# Altium schematic symbol library ultrasounic.SchLib: 36 symbols
Pins are listed as number, name and electrical type; pins without a type are passive.

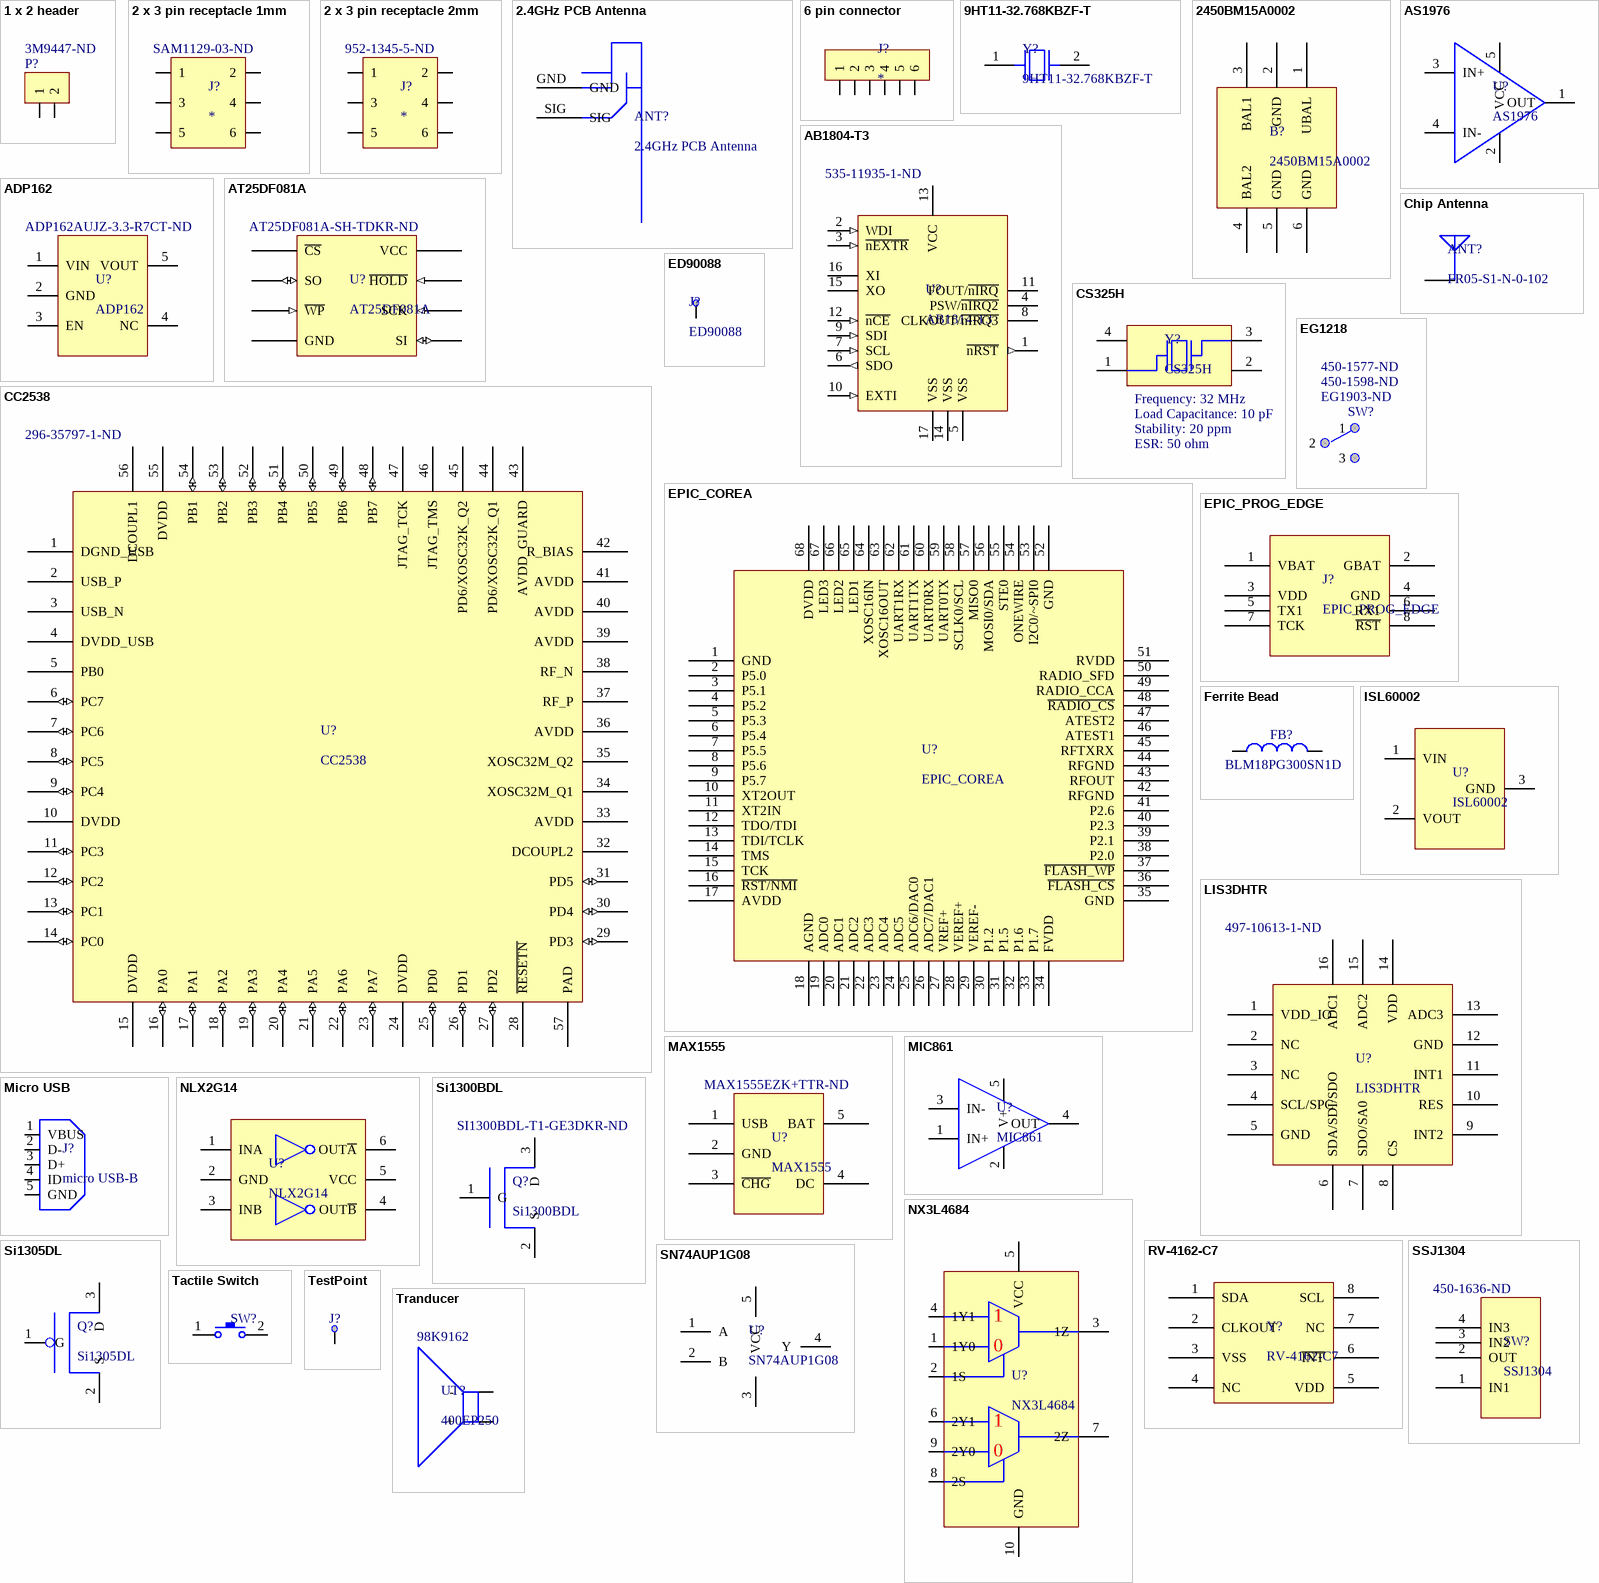
[diagram p0: symbols 1 x 2 header to Tranducer]

## 1 x 2 header
designator P?  Supplier Part Number 1: 3M9447-ND  (hidden comment: 1 x 2 header)
100 mils standard header; Supplier 1: Digi-Key
footprint 1x2 header (1x2 header, 100 mils)
pins: 1, 2

## 2 x 3 pin receptacle 1mm
designator J?  Supplier Part Number 1: SAM1129-03-ND
CONN RCPT LOPRO DL 6POS 1MM SMD; Supplier 1: Digi-Key
footprint Pin receptacle 2x3 1mm (pin receptacle 2x3 1mm)
pins: 1, 2, 3, 4, 5, 6

## 2 x 3 pin receptacle 2mm
designator J?  Supplier Part Number 1: 952-1345-5-ND
CONN RECEPT 2MM SMD AU 6POS; Supplier 1: Digi-Key
footprint Pin receptacle 2x3 2mm (pin receptacle 2x3 2mm)
pins: 1, 2, 3, 4, 5, 6

## 2.4GHz PCB Antenna
designator ANT?
footprint Inverted F Antenna
pins: GND, SIG

## 6 pin connector
designator J?
Supplier 1: Digi-Key; Supplier Part Number 1: 732-2018-2-ND
footprint Flat Flex top contact
pins: 1, 2, 3, 4, 5, 6

## 9HT11-32.768KBZF-T
designator Y?
CRYSTAL 32.768KHZ 12.5PF SMD; Supplier 1: Digi-Key; Supplier Part Number 1: 887-1574-1-ND
footprint 32 KHz Crystal
pins: 1, 2

## 2450BM15A0002
designator B?
BALUN JTI MATCHED ZIGBEE; Supplier 1: Digi-Key; Supplier Part Number 1: 712-1536-2-ND
footprint Chip Balun (Chip Balun 2.4 GHz)
pins: 1 UBAL, 2 GND, 3 BAL1, 4 BAL2, 5 GND, 6 GND

## AB1804-T3
designator U?, comment AB1814-T3  Supplier Part Number 1: 535-11935-1-ND
IC REAL TIME CLOCK SPI 16QFN; Supplier 1: Digi-Key
footprint QFN50P300X300X80-16N (QFN, 16-Leads, Body 3.0x3.0mm (max), Pitch 0.50mm, IPC Medium Density)
pins: 1 ~{nRST} (out), 2 WDI (in), 3 ~{nEXTR} (in), 4 PSW/~{nIRQ2}, 5 VSS, 6 SDO (out), 7 SCL (in), 8 CLKOUT/~{nIRQ3}, 9 SDI (in), 10 EXTI (in), 11 FOUT/~{nIRQ}, 12 ~{nCE} (in), 13 VCC, 14 VSS, 15 XO, 16 XI, 17 VSS

## ADP162
designator U?  Supplier Part Number 1: ADP162AUJZ-3.3-R7CT-ND
IC REG LDO 3.3V 0.15A TSOT23-5; Supplier 1: Digi-Key
footprint TSOT23-5 (SOT23, 6-Leads, Body 3.0x2.9mm (max), Pitch 0.95mm, IPC Medium Density)
pins: 1 VIN, 2 GND, 3 EN, 4 NC, 5 VOUT

## AS1976
designator U?
IC COMPARATOR PUSH/PULL SOT23-5; Supplier 1: Digi-Key; Supplier Part Number 1: AS1976-TCT-ND
footprint SOT23-5 (SOT23, 5-Leads, Body 2.9x1.6mm, Pitch 0.95mm, Lead Span 2.8mm, IPC High Density)
pins: 1 OUT, 2 VEE, 3 IN+, 4 IN-, 5 VCC

## AT25DF081A
designator U?  Supplier Part Number 1: AT25DF081A-SH-TDKR-ND
IC FLASH 8MBIT 100MHZ 8SOIC; Supplier 1: Digi-Key
footprint SOIC127P600X175-8N (SOIC, 8-Leads, Body 5.0x4.0mm (max), Pitch 1.27mm, IPC Medium Density)
pins: 1 ~{CS}, 2 SO (io), 3 ~{WP} (in), 4 GND (power), 5 SI (io), 6 SCK (in), 7 ~{HOLD} (in), 8 VCC (power)

## CC2538
designator U?  Supplier Part Number 1: 296-35797-1-ND
IC SOC IEEE 802.15.4/ZBEE; Supplier 1: Digi-Key
footprint QFN50P800X800X100-56N (QFN, 56-Leads, Body 8.1x8.1mm (max), Pitch 0.50mm, IPC Medium Density)
pins: 1 DGND_USB, 2 USB_P, 3 USB_N, 4 DVDD_USB, 5 PB0, 6 PC7 (io), 7 PC6 (io), 8 PC5 (io), 9 PC4 (io), 10 DVDD (power), 11 PC3 (io), 12 PC2 (io), 13 PC1 (io), 14 PC0 (io), 15 DVDD (power), 16 PA0 (io), 17 PA1 (io), 18 PA2 (io), 19 PA3 (io), 20 PA4 (io), 21 PA5 (io), 22 PA6 (io), 23 PA7 (io), 24 DVDD (power), 25 PD0 (io), 26 PD1 (io), 27 PD2 (io), 28 ~{RESETN}, 29 PD3 (io), 30 PD4 (io), 31 PD5 (io), 32 DCOUPL2 (power), 33 AVDD (power), 34 XOSC32M_Q1, 35 XOSC32M_Q2, 36 AVDD (power), 37 RF_P, 38 RF_N, 39 AVDD (power), 40 AVDD (power), 41 AVDD (power), 42 R_BIAS, 43 AVDD_GUARD (power), 44 PD6/XOSC32K_Q1, 45 PD6/XOSC32K_Q2, 46 JTAG_TMS, 47 JTAG_TCK, 48 PB7 (io), 49 PB6 (io), 50 PB5 (io), 51 PB4 (io), 52 PB3 (io), 53 PB2 (io), 54 PB1 (io), 55 DVDD (power), 56 DCOUPL1 (power), 57 PAD

## Chip Antenna
designator ANT?, comment FR05-S1-N-0-102
Fractus Compact Reach Xtend
footprint Chip Antenna (FR05-S1-N-0-102)
pins: IN

## CS325H
designator Y?  Frequency: 32 MHz  Load Capacitance: 10 pF  Stability: 20 ppm  ESR: 50 ohm
CRYSTAL 32.000MHZ 10PF SMD; Shunt Capacitance: 5 pF max; Supplier 1: Digi-Key; Supplier Part Number 1: 300-8757-1-ND
footprint CS325H (CS325H Crystals)
pins: 1, 2, 3, 4

## ED90088
designator J?
PIN RECEPTACLES; Supplier 1: Digi-Key; Supplier Part Number 1: ED90088-ND
footprint 0360 SER (PIN RECEPTACLES)
pins: 1 PIN

## EG1218
designator SW?  Supplier Part Number 1: EG1903-ND  Supplier Part Number 2: 450-1598-ND  Supplier Part Number 3: 450-1577-ND  (hidden comment: EG1218)
Switch 3 Pos; Supplier 1: Digi-Key; Supplier 2: Digi-Key; Supplier 3: Digi-Key
footprint EG1218 (Switch 3 position)
footprint Slide Switch 2 position
footprint Slide Switch SPDT (Surface mount, 3 position, right angle slide switch)
pins: 1, 2, 3

## EPIC_COREA
designator U?
EPIC Core
footprint EPIC_LCC68
pins: 1 GND, 2 P5.0, 3 P5.1, 4 P5.2, 5 P5.3, 6 P5.4, 7 P5.5, 8 P5.6, 9 P5.7, 10 XT2OUT, 11 XT2IN, 12 TDO/TDI, 13 TDI/TCLK, 14 TMS, 15 TCK, 16 ~{RST/NMI}, 17 AVDD, 18 AGND, 19 ADC0, 20 ADC1, 21 ADC2, 22 ADC3, 23 ADC4, 24 ADC5, 25 ADC6/DAC0, 26 ADC7/DAC1, 27 VREF+, 28 VEREF+, 29 VEREF-, 30 P1.2, 31 P1.5, 32 P1.6, 33 P1.7, 34 FVDD, 35 GND, 36 ~{FLASH_CS}, 37 ~{FLASH_WP}, 38 P2.0, 39 P2.1, 40 P2.3, 41 P2.6, 42 RFGND, 43 RFOUT, 44 RFGND, 45 RFTXRX, 46 ATEST1, 47 ATEST2, 48 ~{RADIO_CS}, 49 RADIO_CCA, 50 RADIO_SFD, 51 RVDD, 52 GND, 53 I2C0/~SPI0, 54 ONEWIRE, 55 STE0, 56 MOSI0/SDA, 57 MISO0, 58 SCLK0/SCL, 59 UART0TX, 60 UART0RX, 61 UART1TX, 62 UART1RX, 63 XOSC16OUT, 64 XOSC16IN, 65 LED1, 66 LED2, 67 LED3, 68 DVDD

## EPIC_PROG_EDGE
designator J?
EPIC Programming edge
footprint EPIC_PROG_EDGE (EPIC Programming edge)
pins: 1 VBAT, 2 GBAT, 3 VDD, 4 GND, 5 TX1, 6 RX1, 7 TCK, 8 ~{RST}

## Ferrite Bead
designator FB?, comment BLM18PG300SN1D
FERRITE CHIP 30 OHM 1000MA 0603; Supplier 1: Digi-Key; Supplier Part Number 1: 490-1035-2-ND
pins: 1, 2

## ISL60002
designator U?
IC VREF SERIES PREC SOT-23-3; Supplier 1: Digi-Key; Supplier Part Number 1: ISL60002DIH310Z-TKCT-ND
footprint SOT23-3N (SOT23, 3-Leads, Body 2.9x1.3mm, Pitch 0.95mm, Lead Span 2.5mm, IPC Medium Density)
pins: 1 VIN, 2 VOUT, 3 GND

## LIS3DHTR
designator U?  Supplier Part Number 1: 497-10613-1-ND
ACCELEROMETER 3AXIS MEMS 16-LGA; Supplier 1: Digi-Key
footprint LGA-16
pins: 1 VDD_IO, 2 NC, 3 NC, 4 SCL/SPC, 5 GND, 6 SDA/SDI/SDO, 7 SDO/SA0, 8 CS, 9 INT2, 10 RES, 11 INT1, 12 GND, 13 ADC3, 14 VDD, 15 ADC2, 16 ADC1

## MAX1555
designator U?  Supplier Part Number 1: MAX1555EZK+TTR-ND
IC BATT CHRGR LI+ 1CELL SOT23-5; Supplier 1: Digi-Key
footprint SOT23-5 (SOT23, 5-Leads, Body 2.9x1.6mm, Pitch 0.95mm, Lead Span 2.8mm, IPC High Density)
pins: 1 USB, 2 GND, 3 ~{CHG}, 4 DC, 5 BAT

## MIC861
designator U?
IC OPAMP 400KHZ 2.7V ULT LP SC70; Supplier 1: Digi-Key; Supplier Part Number 1: 576-2932-1-ND
footprint SC70-5
pins: 1 IN+, 2 V-, 3 IN-, 4 OUT, 5 V+

## Micro USB
designator J?, comment micro USB-B
CONN USB MICRO B RECPT SMT R/A; Supplier 1: Digi-Key; Supplier Part Number 1: 609-4616-6-ND
footprint Micro USB-B
pins: 1 VBUS (power), 2 D- (power), 3 D+ (power), 4 ID (power), 5 GND (power)

## NLX2G14
designator U?
IC INVERTER DUAL SCHMTRIG ULLGA6; Supplier 1: Digi-Key; Supplier Part Number 1: NLX2G14AMX1TCGOSCT-ND
footprint ULLGA6 (ULLGA6 1.45x1.0, 0.5P  CASE 613AF)
pins: 1 INA, 2 GND, 3 INB, 4 OUT~{B}, 5 VCC, 6 OUT~{A}

## NX3L4684
designator U?
IC ANALOG SWITCH SPDT 10XQFN; Supplier 1: Digi-Key; Supplier Part Number 1: 568-5564-1-ND
footprint QFN50P155X200X13-10N (QFN, 10-Leads, Body 2.1x1.6mm (max), Pitch 0.50mm, IPC Medium Density)
pins: 1 1Y0, 2 1S, 3 1Z, 4 1Y1, 5 VCC, 6 2Y1, 7 2Z, 8 2S, 9 2Y0, 10 GND
text: 0

## RV-4162-C7
designator Y?
Real Time Clock Module with I2C Bus; Supplier 1: Allied; Supplier Part Number 1: R1033504
footprint RV4162 (RTC)
pins: 1 SDA, 2 CLKOUT, 3 VSS, 4 NC, 5 VDD, 6 ~{INT}, 7 NC, 8 SCL

## Si1300BDL
designator Q?  Supplier Part Number 1: SI1300BDL-T1-GE3DKR-ND
MOSFET N-CH D-S 20V SC-70-3; Supplier 1: Digi-Key
footprint SC70-3
pins: 1 G, 2 S, 3 D

## Si1305DL
designator Q?
MOSFET P-CH G-S 8V SC-70-3; Supplier 1: Digi-Key; Supplier Part Number 1: SI1305DL-T1-GE3DKR-ND
footprint SC70-3
pins: 1 G, 2 S, 3 D

## SN74AUP1G08
designator U?
IC SNGL 2IN POS-AND GATE SC70-5; Supplier 1: Digi-Key; Supplier Part Number 1: 296-19075-1-ND
footprint SC70-5
pins: 1 A, 2 B, 3 GND, 4 Y, 5 VCC

## SSJ1304
designator SW?  Supplier Part Number 1: 450-1636-ND
3 position slide switch; Supplier 1: Digi-Key
footprint SSJ1304 (Slide Switch)
pins: 1 IN1, 2 OUT, 3 IN2, 4 IN3

## Tactile Switch
designator SW?  (value not drawn)
Switch; Supplier 1: Digi-Key; Supplier Part Number 1: P12298SCT-ND; Supplier 2: Digi-Key; Supplier Part Number 2: SW1021DKR-ND
footprint EVQP2 (EVQP2 Switch)
footprint B3U (Ultra-small tactile switch)
pins: 1, 2

## TestPoint
designator J?, comment 5004  (value not drawn)
TEST POINT PC MINI .040"D YELLOW; Supplier 1: Digi-Key; Supplier Part Number 1: 5004K-ND; datasheet: http://mail.keyelco.com/ENG._DEPT/PDF%20CAT%20NO%20Drawings/5004.pdf
footprint TestPoint
footprint TestPoint
pins: 1 TB

## Tranducer
designator UT?, comment 400EP250  Supplier Part Number 1: 98K9162
Air Ultrasounic Ceramic Transducers; Supplier 1: Newark
footprint Transducer (10mm pitch)
footprint Transducer recepticle (Transducer with Pin Recepticle)
pins: 1 -, 2 +

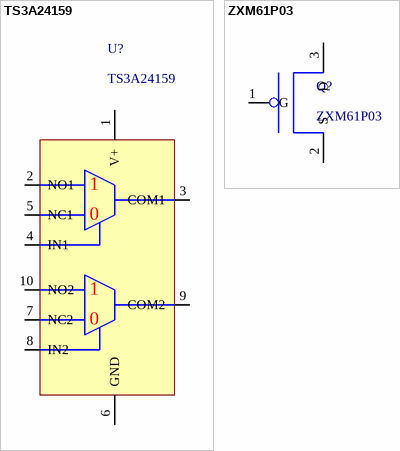
[diagram p1: symbols TS3A24159 to ZXM61P03]

## TS3A24159
designator U?
DUAL-CHANNEL 2:1 MULTIPLEXER/DEMULTIPLEXER; Supplier 1: Digi-Key; Supplier Part Number 1: 296-21913-1-ND
footprint TSSOP50P490X110-10N (TSSOP, 10-Leads, Body 3.1x3.1mm (max), Pitch 0.50mm, IPC Medium Density)
pins: 1 V+, 2 NO1, 3 COM1, 4 IN1, 5 NC1, 6 GND, 7 NC2, 8 IN2, 9 COM2, 10 NO2
text: 0

## ZXM61P03
designator Q?
30V P-CHANNEL ENHANCEMENT MODE MOSFET; Supplier 1: Digi-Key; Supplier Part Number 1: ZXM61P03FCT-ND
footprint SOT23-3N (SOT23, 3-Leads, Body 2.9x1.3mm, Pitch 0.95mm, Lead Span 2.5mm, IPC Medium Density)
pins: 1 G, 2 S, 3 D